# Altium schematic symbol library Schlib1.SchLib: 1 symbol
Pins are listed as number, name and electrical type; pins without a type are passive.

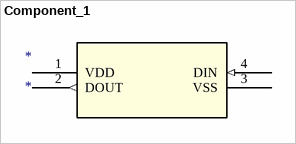
[diagram p0: symbol Component_1]

## Component_1
designator *
footprint Model Name (Footprint not found)
pins: 1 VDD (power), 2 DOUT (out), 3 VSS (power), 4 DIN (in)